# Altium schematic symbol library Schlib1.SchLib: 6 symbols
Pins are listed as number, name and electrical type; pins without a type are passive.

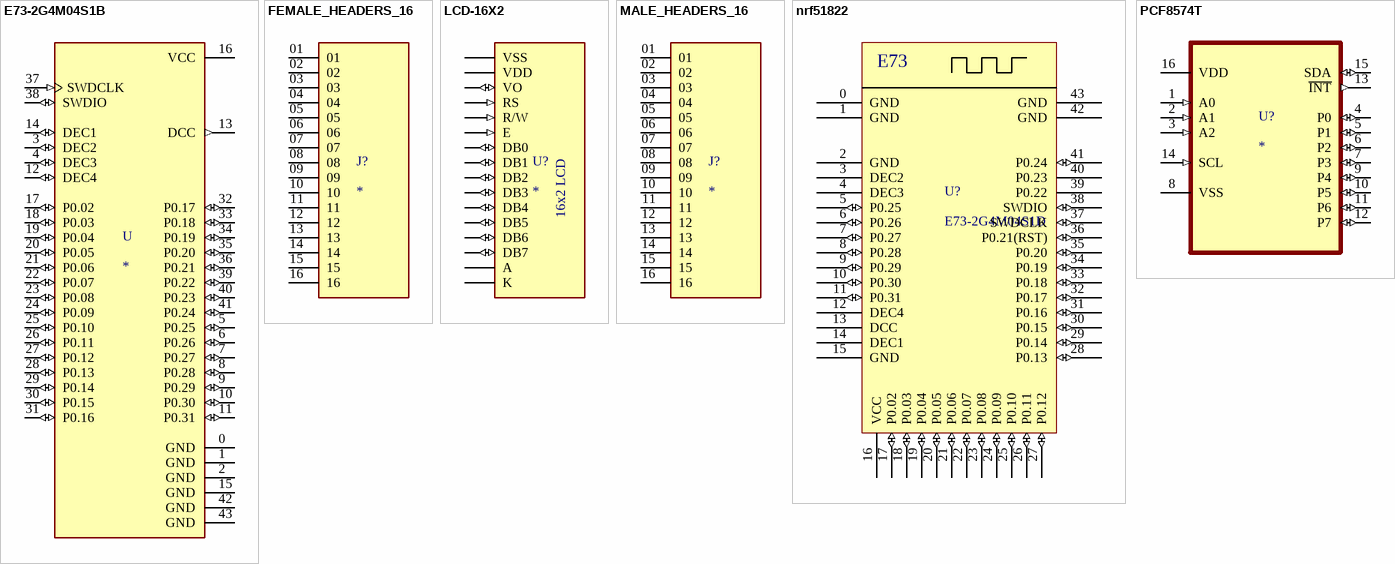
[diagram p0: symbols E73-2G4M04S1B to PCF8574T]

## E73-2G4M04S1B
designator U
nRF52832 BLE 4.2/5.0 SMD Wireless Module; MP: E73-2G4M04S1B; MF: EBYTE; Availability: Unavailable; Price: None; Package: Package; Value: *; SnapEDA_Link: https://www.snapeda.com/parts/E73-2G4M04S1B/EBYTE/view-part/4219264/?ref=snap
footprint XCVR_E73-2G4M04S1B
pins: 0 GND (power), 1 GND (power), 2 GND (power), 3 DEC2 (io), 4 DEC3 (io), 5 P0.25 (io), 6 P0.26 (io), 7 P0.27 (io), 8 P0.28 (io), 9 P0.29 (io), 10 P0.30 (io), 11 P0.31 (io), 12 DEC4 (io), 13 DCC (out), 14 DEC1 (io), 15 GND (power), 16 VCC (power), 17 P0.02 (io), 18 P0.03 (io), 19 P0.04 (io), 20 P0.05 (io), 21 P0.06 (io), 22 P0.07 (io), 23 P0.08 (io), 24 P0.09 (io), 25 P0.10 (io), 26 P0.11 (io), 27 P0.12 (io), 28 P0.13 (io), 29 P0.14 (io), 30 P0.15 (io), 31 P0.16 (io), 32 P0.17 (io), 33 P0.18 (io), 34 P0.19 (io), 35 P0.20 (io), 36 P0.21 (io), 37 SWDCLK (in), 38 SWDIO (io), 39 P0.22 (io), 40 P0.23 (io), 41 P0.24 (io), 42 GND (power), 43 GND (power)

## FEMALE_HEADERS_16
designator J?
MP: TSW-116-23-S-S-LL; Package: None; Price: None; Value: *; Availability: Unavailable
footprint SAMTEC_TSW-116-23-S-S-LL
pins: 01, 02, 03, 04, 05, 06, 07, 08, 09, 10, 11, 12, 13, 14, 15, 16

## LCD-16X2
designator U?
Display Development Tools 16x2 Black on Green Char LCD w Backlight; MF: Gravitech; MP: LCD-16X2; SnapEDA_Link: https://www.snapeda.com/parts/LCD-16X2/Gravitech/view-part/?ref=snap; Package: None; Value: *; Check_prices: https://www.snapeda.com/parts/LCD-16X2/Gravitech/view-part/?ref=eda
footprint MODULE_LCD-16X2
pins: 1 VSS (power), 2 VDD (power), 3 VO (io), 4 RS (in), 5 R/W (in), 6 E (in), 7 DB0 (io), 8 DB1 (io), 9 DB2 (io), 10 DB3 (io), 11 DB4 (io), 12 DB5 (io), 13 DB6 (io), 14 DB7 (io), 15 A (power), 16 K (power)
text: 16x2 LCD

## MALE_HEADERS_16
designator J?
MP: TSW-116-23-S-S-LL; Package: None; Price: None; Value: *; Availability: Unavailable
footprint SAMTEC_TSW-116-23-S-S-LL
pins: 01, 02, 03, 04, 05, 06, 07, 08, 09, 10, 11, 12, 13, 14, 15, 16

## nrf51822
designator U?, comment E73-2G4M04S1D
E73-2G4M04S1D is a small Bluetooth module that features ultra low power consumption with dual antenna PCB and IPX antenna of high performance. Based on originally imported IC nRF51822 from NORDIC,the module supports BLE 4.2 protocol.
footprint E73-2G4M04S1D
pins: 0 GND "Ground electrode, connect to power reference ground", 1 GND "Ground electrode, connect to power reference ground", 2 GND "Ground electrode, connect to power reference ground", 3 DEC2, 4 DEC3, 5 P0.25 (io), 6 P0.26 (io), 7 P0.27 (io), 8 P0.28 (io), 9 P0.29 (io), 10 P0.30 (io), 11 P0.31 (io), 12 DEC4, 13 DCC, 14 DEC1, 15 GND, 16 VCC "Power supply 1.8 ~ 3.6V DC（Note: The voltage higher 3.6V is forbidden）", 17 P0.02 (io), 18 P0.03 (io), 19 P0.04 (io), 20 P0.05 (io), 21 P0.06 (io), 22 P0.07 (io), 23 P0.08 (io), 24 P0.09 (io), 25 P0.10 (io), 26 P0.11 (io), 27 P0.12 (io), 28 P0.13 (io), 29 P0.14 (io), 30 P0.15 (io), 31 P0.16 (io), 32 P0.17 (io), 33 P0.18 (io), 34 P0.19 (io), 35 P0.20 (io), 36 P0.21(RST) (io) "Input/Output/RST", 37 SWDCLK (io), 38 SWDIO (io), 39 P0.22, 40 P0.23, 41 P0.24 (io), 42 GND "Ground electrode, connect to power reference ground", 43 GND "Ground electrode, connect to power reference ground"
text: E73

## PCF8574T
designator U?
I/O Expander 8 IÂ²C 100 kHz 20-SSOP; MP: PCF8574T; MF: NXP Semiconductors; Price: None; Availability: In Stock; Package: SOIC-16 NXP Semiconductors; Purchase-URL: https://pricing.snapeda.com/search/part/PCF8574T/?ref=eda; SnapEDA_Link: https://www.snapeda.com/parts/PCF8574T/NXP+Semiconductors/view-part/?ref=snap; Value: *; Check_prices: https://www.snapeda.com/parts/PCF8574T/NXP+Semiconductors/view-part/?ref=eda
footprint SOIC127P1032X265-16N
pins: 1 A0 (in), 2 A1 (in), 3 A2 (in), 4 P0 (io), 5 P1 (io), 6 P2 (io), 7 P3 (io), 8 VSS, 9 P4 (io), 10 P5 (io), 11 P6 (io), 12 P7 (io), 13 ~{INT} (out), 14 SCL (in), 15 SDA (io), 16 VDD (power)